# Altium integrated library resistor.IntLib: 48 symbols
Pins are listed as number, name and electrical type; pins without a type are passive.

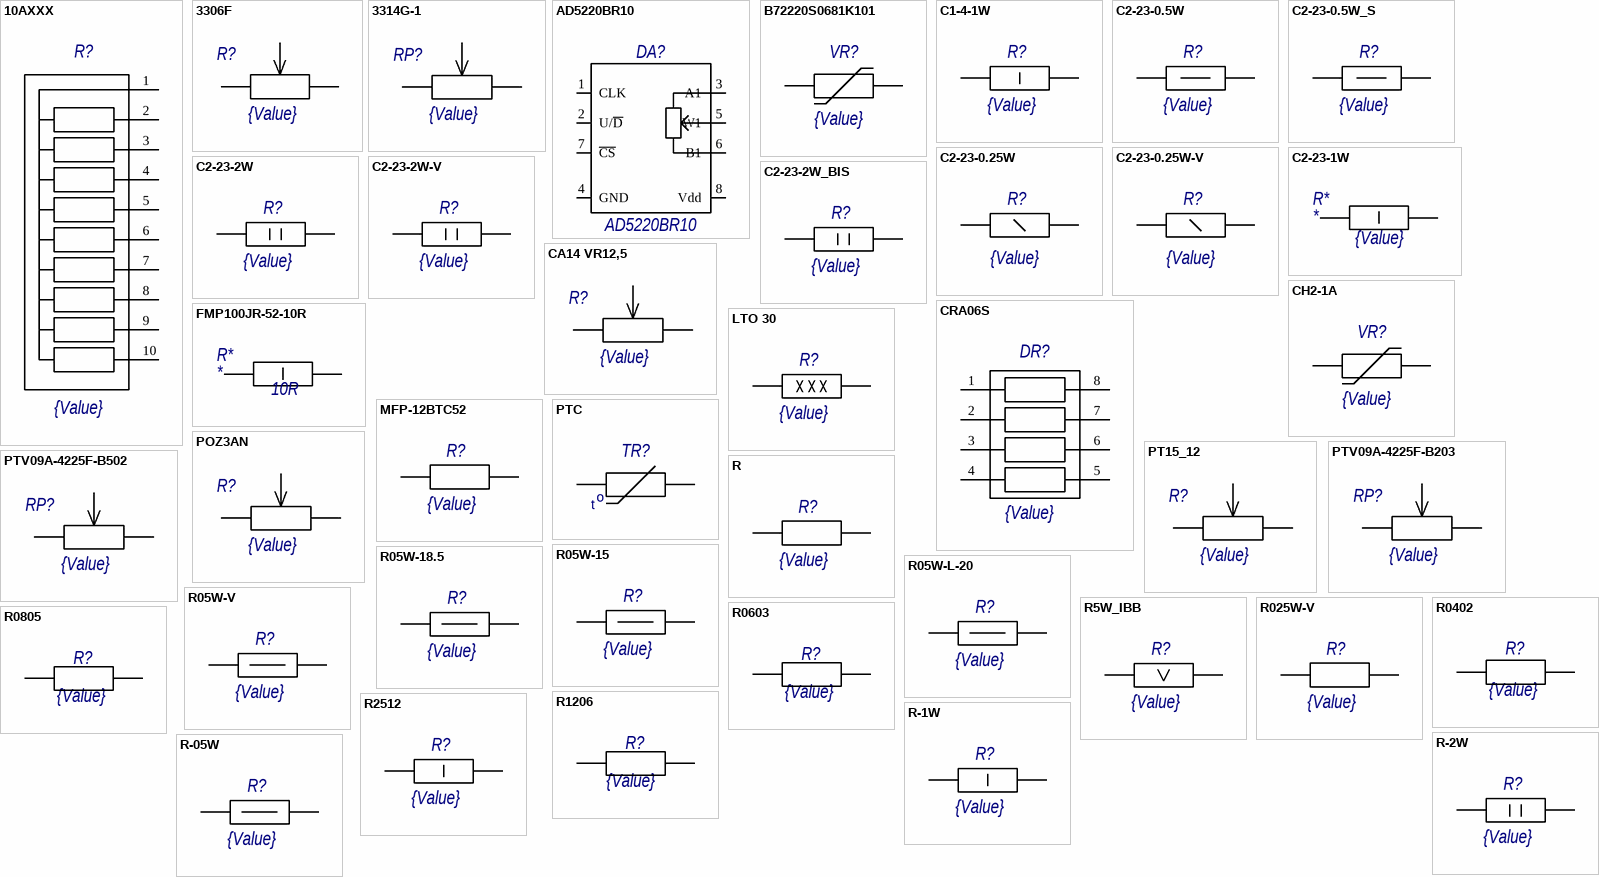
[diagram p0: symbols 10AXXX to R-05W]

## 10AXXX
designator R?  value {Value}  (hidden comment: 10AXXX)
footprint 10AXXX
pins: 1 A1, 2 A2, 3 A3, 4 A4, 5 A5, 6 A6, 7 A7, 8 A8, 9 A9, 10 A10

## 3306F
designator R?  value {Value}  (hidden comment: 3306F)
footprint 3306F
pins: 1 A, 2 B, 3 C

## 3314G-1
designator RP?  value {Value}  (hidden comment: 3314G-1)
footprint 3314G-1
pins: 1 A, 2 B, 3 C

## AD5220BR10
designator DA?
Value: *
footprint SO-8
pins: 1 CLK, 2 U/~{D}, 3 A1, 4 GND, 5 W1, 6 B1, 7 ~{CS}, 8 Vdd

## B72220S0681K101
designator VR?  value {Value}  (hidden comment: B72220S0681K101)
Prec: {Prec}; Pack: {Pack}; Power: {Power}
footprint TVR-20
pins: 1 A, 2 B

## C1-4-1W
designator R?  value {Value}  (hidden comment: C1-4-1W)
Prec: {Prec}; Term: {Term}; Pack: {Pack}; Power: 1
footprint C1-4-1W
pins: 1 A, 2 B

## C2-23-0.5W
designator R?  value {Value}  (hidden comment: C2-23-0.5W)
Prec: {Prec}; Power: 0.5; Term: {Term}; Pack: {Pack}
footprint C2-23-0.5W
pins: 1 A, 2 B

## C2-23-0.5W_S
designator R?  value {Value}  (hidden comment: C2-23-0.5W_S)
Prec: {Prec}; Power: 0.5; Term: {Term}; Pack: {Pack}
footprint C2-23-0.5W_SMALL
pins: 1 A, 2 B

## C2-23-0.25W
designator R?  value {Value}  (hidden comment: C2-23-0.25W)
Power: 1; Prec: {Prec}; Term: {Term}; Pack: {Pack}
footprint C2-23-0.25W
pins: 1 A, 2 B

## C2-23-0.25W-V
designator R?  value {Value}  (hidden comment: C2-23-0.25W-V)
Power: 1; Prec: {Prec}; Term: {Term}; Pack: {Pack}
footprint C2-23-0.25W-V
pins: 1 A, 2 B

## C2-23-1W
designator R*  value {Value}
footprint R1W
pins: 1 A, 2 B

## C2-23-2W
designator R?  value {Value}  (hidden comment: C2-23-2W)
Prec: {Prec}; Pack: {Pack}; Term: {Term}; Power: 2
footprint C2-23-2W
pins: 1 A, 2 B

## C2-23-2W-V
designator R?  value {Value}  (hidden comment: C2-23-2W-V)
Prec: {Prec}; Pack: {Pack}; Term: {Term}; Power: 2
footprint C2-23-2W-V
pins: 1 A, 2 B

## C2-23-2W_BIS
designator R?  value {Value}  (hidden comment: C2-23-2W_BIS)
Prec: {Prec}; Pack: {Pack}; Term: {Term}; Power: 2
footprint C2-23-2W_BIS
pins: 1 A, 2 B

## CA14 VR12,5
designator R?  value {Value}  (hidden comment: CA14 VR12,5)
footprint CA14 VR12,5
pins: 1 A, 2 B, 3 C

## CH2-1A
designator VR?  value {Value}  (hidden comment: CH2-1A)
Prec: {Prec}; Pack: {Pack}; Power: {Power}
footprint CH2-1A
pins: 1 A, 2 B

## CRA06S
designator DR?  value {Value}  (hidden comment: CRA06S)
footprint CRA06S
pins: 1 A1, 2 A2, 3 A3, 4 A4, 5 A5, 6 A6, 7 A7, 8 A8

## FMP100JR-52-10R
designator R*  value 10R
footprint RES-1W-V
pins: 1 A, 2 B

## LTO 30
designator R?  value {Value}  (hidden comment: LTO 30)
30W; Power: 5; Prec: {Prec}; Term: {Term}; Pack: {Pack}
footprint TO-220
pins: 1 A, 2 B

## MFP-12BTC52
designator R?  value {Value}  (hidden comment: MFP-12BTC52)
Term: {Term}; Pack: {Pack}; Prec: {Prec}; Power: {Power}
footprint MFP-12
pins: 1 A, 2 B

## POZ3AN
designator R?  value {Value}  (hidden comment: POZ3AN)
footprint POZ3AN
pins: 1 A, 2 C, 3 B

## PT15_12
designator R?  value {Value}  (hidden comment: PT15_12)
footprint PT15_12
pins: 1 A, 2 C, 3 B

## PTC
designator TR?  (value not drawn)
Pack: {Pack}; Power: {Power}; Value: *
footprint TVR-07-180
pins: 1 A, 2 B
text: o; t

## PTV09A-4225F-B203
designator RP?  value {Value}  (hidden comment: PTV09A-4225F-B203)
footprint PTV09A-4XXXF_PTV09A-4225F-B203(Primary)
pins: 1, 2, 3

## PTV09A-4225F-B502
designator RP?  value {Value}  (hidden comment: PTV09A-4225F-B502)
footprint PTV09A-4XXXF_PTV09A-4225F-B502(Primary)
pins: 1, 2, 3

## R
designator R?  value {Value}  (hidden comment: R)
Term: {Term}; Pack: {Pack}; Prec: {Prec}; Power: {Power}
footprint RPREC
pins: 1 A, 2 B

## R05W-15
designator R?  value {Value}  (hidden comment: R05W-15)
Prec: {Prec}; Power: 0.5; Term: {Term}; Pack: {Pack}
footprint R05W-15
pins: 1 A, 2 B

## R05W-18.5
designator R?  value {Value}  (hidden comment: R05W-18.5)
Prec: {Prec}; Power: 0.5; Term: {Term}; Pack: {Pack}
footprint R05W-18.5
pins: 1 A, 2 B

## R05W-L-20
designator R?  value {Value}  (hidden comment: R05W-L-20)
Prec: {Prec}; Power: 0.5; Term: {Term}; Pack: {Pack}
footprint R05W-L-20
pins: 1 A, 2 B

## R05W-V
designator R?  value {Value}  (hidden comment: R05W-V)
Prec: {Prec}; Power: 0.5; Term: {Term}; Pack: {Pack}
footprint R05W-V
pins: 1 A, 2 B

## R5W_IBB
designator R?  value {Value}  (hidden comment: R5W_IBB)
Pack: {Pack}; Power: 5; Prec: {Prec}; Term: {Term}
footprint R5W_IBB
pins: 1 A, 2 B

## R025W-V
designator R?  value {Value}  (hidden comment: R025W-V)
Term: {Term}; Pack: {Pack}; Prec: {Prec}; Power: {Power}
footprint R025W-V
pins: 1 A, 2 B

## R0402
designator R?  value {Value}  (hidden comment: R0402)
Term: {Term}; Pack: {Pack}; Prec: {Prec}; Power: {Power}
footprint SMD0402
pins: 1 A, 2 B

## R0603
designator R?  value {Value}  (hidden comment: R0603)
Term: {Term}; Pack: {Pack}; Prec: {Prec}; Power: {Power}
footprint SMD0603
pins: 1 A, 2 B

## R0805
designator R?  value {Value}  (hidden comment: R0805)
Term: {Term}; Pack: {Pack}; Prec: {Prec}; Power: {Power}
footprint SMD0805
pins: 1 A, 2 B

## R1206
designator R?  value {Value}  (hidden comment: R1206)
Term: {Term}; Pack: {Pack}; Prec: {Prec}; Power: {Power}
footprint SMD1206
pins: 1 A, 2 B

## R2512
designator R?  value {Value}  (hidden comment: R2512)
Prec: {Prec}; Term: {Term}; Pack: {Pack}; Power: 1
footprint SMD2512
pins: 1 A, 2 B

## R-1W
designator R?  value {Value}  (hidden comment: R-1W)
Prec: {Prec}; Term: {Term}; Pack: {Pack}; Power: 1
footprint R1W
pins: 1 A, 2 B

## R-2W
designator R?  value {Value}  (hidden comment: R-2W)
Prec: {Prec}; Pack: {Pack}; Term: {Term}; Power: 2
footprint R2W
pins: 1 A, 2 B

## R-05W
designator R?  value {Value}  (hidden comment: R-05W)
Prec: {Prec}; Power: 0.5; Term: {Term}; Pack: {Pack}
footprint R05W
pins: 1 A, 2 B

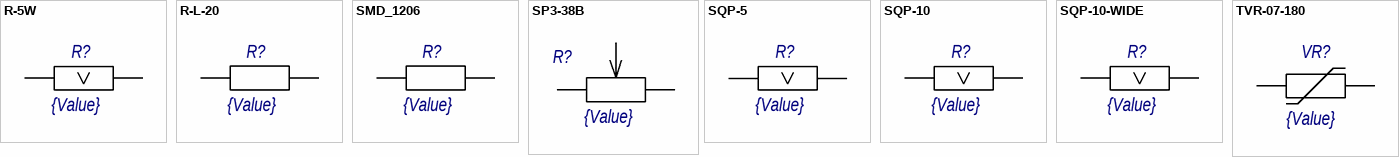
[diagram p1: symbols R-5W to TVR-07-180]

## R-5W
designator R?  value {Value}  (hidden comment: R-5W)
Pack: {Pack}; Power: 5; Prec: {Prec}; Term: {Term}
footprint R5W
pins: 1 A, 2 B

## R-L-20
designator R?  value {Value}  (hidden comment: R-L-20)
Term: {Term}; Pack: {Pack}; Prec: {Prec}; Power: {Power}
footprint RPREC-L20
pins: 1 A, 2 B

## SMD_1206
designator R?  value {Value}  (hidden comment: SMD_1206)
Term: {Term}; Pack: {Pack}; Prec: {Prec}; Power: {Power}
footprint SMD1206_TRUE
pins: 1 A, 2 B

## SP3-38B
designator R?  value {Value}  (hidden comment: SP3-38B)
footprint SP3-38B
pins: 1 A, 2 B, 3 C

## SQP-5
designator R?  value {Value}  (hidden comment: SQP-5)
Pack: {Pack}; Power: 5; Prec: {Prec}; Term: {Term}
footprint SQP-5
pins: 1 A, 2 B

## SQP-10
designator R?  value {Value}  (hidden comment: SQP-10)
Pack: {Pack}; Power: 5; Prec: {Prec}; Term: {Term}
footprint SQP-10
pins: 1 A, 2 B

## SQP-10-WIDE
designator R?  value {Value}  (hidden comment: SQP-10-WIDE)
Pack: {Pack}; Power: 5; Prec: {Prec}; Term: {Term}
footprint SQP-10-WIDE
pins: 1 A, 2 B

## TVR-07-180
designator VR?  value {Value}  (hidden comment: TVR-07-180)
Prec: {Prec}; Pack: {Pack}; Power: {Power}
footprint TVR-07-180
pins: 1 A, 2 B